# Altium integrated library PCAP04-AQFM-24.IntLib: 1 symbol
Pins are listed as number, name and electrical type; pins without a type are passive.

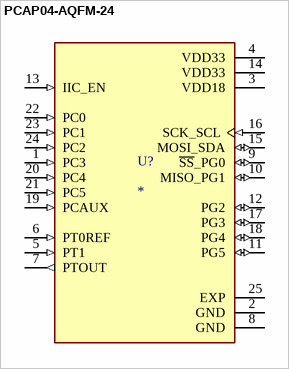
[diagram p0: symbol PCAP04-AQFM-24]

## PCAP04-AQFM-24
designator U?
Capacitance-to-Digital Converter 17 b IÂ²C, SPI 24-QFN (4x4); MF: ScioSense; MP: PCAP04-AQFM-24; SnapEDA_Link: https://www.snapeda.com/parts/PCAP04-AQFM-24/ScioSense/view-part/?ref=snap; Package: QFN-24 ScioSense; Value: *; Check_prices: https://www.snapeda.com/parts/PCAP04-AQFM-24/ScioSense/view-part/?ref=eda
footprint IC_PCAP04-AQFM-24
pins: 1 PC3 (in), 2 GND (power), 3 VDD18 (power), 4 VDD33 (power), 5 PT1 (in), 6 PT0REF (in), 7 PTOUT (out), 8 GND (power), 9 ~{SS}_PG0 (io), 10 MISO_PG1 (io), 11 PG5 (io), 12 PG2 (io), 13 IIC_EN (in), 14 VDD33 (power), 15 MOSI_SDA (io), 16 SCK_SCL (in), 17 PG3 (io), 18 PG4 (io), 19 PCAUX (in), 20 PC4 (in), 21 PC5 (in), 22 PC0 (in), 23 PC1 (in), 24 PC2 (in), 25 EXP (power)